# Altium schematic symbol library Schlib1.SchLib: 117 symbols (part 1 of 2)
Pins are listed as number, name and electrical type; pins without a type are passive.

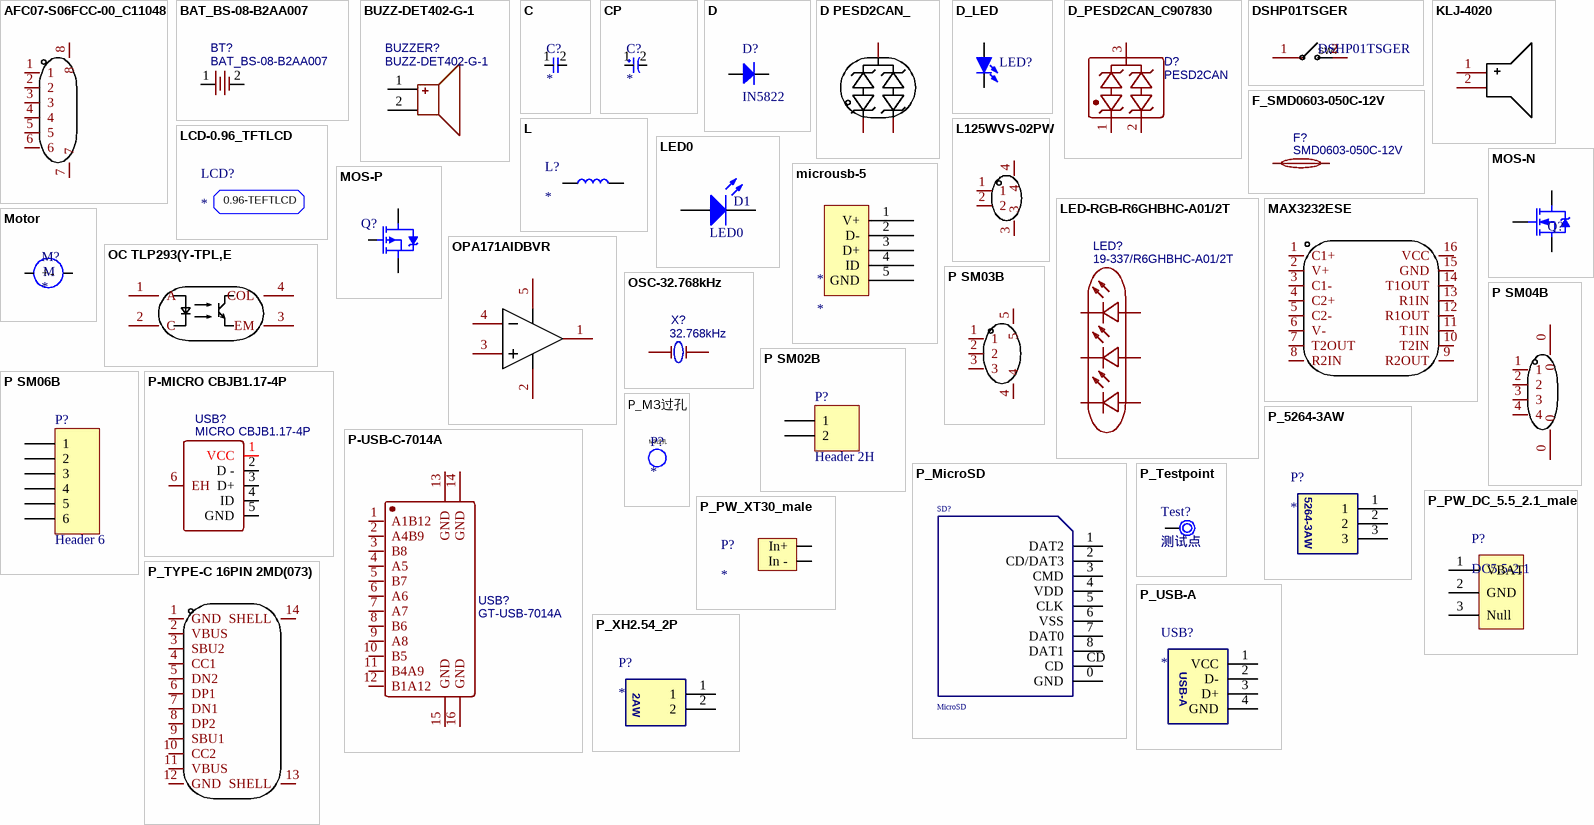
[diagram p0: symbols AFC07-S06FCC-00_C11048 to P_XH2.54_2P]

## AFC07-S06FCC-00_C11048
designator FPC?  (value not drawn)
Manufacturer: JS(钜硕电子); Symbol: FPC 0.5MM 6P Pull type H2.0mm Under the next; Add into BOM: yes; Pitch: 0.5mm; Number of Contacts: 6P; Locking Feature: 抽屉式; FFC, FCB Thickness: 0.3mm; Name: AFC07-S06FCC-00; Device: AFC07-S06FCC-00_C11048; LCSC Part Name: 0.5mm P数:6P 抽屉式 下接; Supplier Part: C11048; Manufacturer Part: AFC07-S06FCC-00; Supplier Footprint: SMD,P=0.5mm; JLCPCB Part Class: Extended Part; Datasheet: https://atta.szlcsc.com/upload/public/pdf/source/20190717/C405328_807FA67B3F1B55207D2BA590F8028B61.pdf; Supplier: LCSC; Convert to PCB: yes; Mounting Type: 卧贴; Contact Type: 下接; Height Above Board: 2mm
footprint FPC-SMD_P0.50-6P_LSSJ-H2.0-6P
3D model FPC-SMD_P0.50-6P_LSSJ-L8.6-W5.4-H2.0-6P
pins: 1, 2, 3, 4, 5, 6, 7, 8

## BAT_BS-08-B2AA007
designator BT?
BOM_Manufacturer: MYOUNG(美阳); Contributor: LCSC; BOM_Supplier: LCSC; BOM_Supplier Part: C964784; BOM_Manufacturer Part: BS-08-B2AA007; BOM_JLCPCB Part Class: Extended Part; spicePre: B; spiceSymbolName: BS-08-B2AA007
footprint BAT-SMD_BS-08-B2BA004
pins: 1, 2

## BUZZ-DET402-G-1
designator BUZZER?
BOM_Manufacturer: FUET(福声科技); BOM_Manufacturer Part: FUET-1580-12; Contributor: LCSC; BOM_Supplier: LCSC; BOM_Supplier Part: C2690508; BOM_JLCPCB Part Class: Extended Part; spicePre: B; spiceSymbolName: FUET-1580-12
footprint DET402-G-1
pins: 1, 2

## C
designator C?
pins: 1 "Supply Voltage", 2 "Supply Voltage"

## CP
designator C?
极性电容 / 多为大容量铝电解
pins: 1 "Supply Voltage", 2 "Supply Voltage"

## D
designator D?, comment IN5822
Default Diode; Published: 8-Jun-2000; LatestRevisionDate: 17-Jul-2002; LatestRevisionNote: Re-released for DXP Platform.; PackageVersion: Sep-1996; PackageReference: SMC; Publisher: Altium Limited; PackageDescription: DO-214-AB/SMC; 2 C-Bend Leads; Body 7.9 x 5.9 mm, inc. leads (LxW); Code_JEDEC: DO-214-AB
simulation model DIODE (Diode)
signal-integrity model Diode
footprint SMB (DO-214-AA/SMB; 2 C-Bend Leads; Body 5.3 x 3.6 mm, inc. leads (LxW))
pins: 1 A, 2 K

## D PESD2CAN_
designator D?, comment PESD2CAN_C907830  (value not drawn)
C907830; Manufacturer: TECH PUBLIC(台舟); Add into BOM: yes; Name: PESD2CAN; Symbol: PESD2CAN_C907830; Device: PESD2CAN_C907830; LCSC Part Name: PESD2CAN; Supplier Part: C907830; Manufacturer Part: PESD2CAN; Supplier Footprint: SOT23-3; JLCPCB Part Class: Extended Part; Datasheet: https://atta.szlcsc.com/upload/public/pdf/source/20201020/C907830_A4D1E6D0B6BD1253ACE8F8FC946B1D04.pdf; Supplier: LCSC; Convert to PCB: yes
footprint SOT-23-3_L2.9-W1.3-P1.90-LS2.4-BR
3D model SOT-23-3P_L2.9-W1.3-H1.0-LS2.4-P0.95
pins: 1, 2, 3

## D_LED
designator LED?
贴片LED; 版权归属: 黎明电子style; BOM名称: 贴片LED; 学习资源: https://lmdzstyle.taobao.com/
footprint LED 0603W (白色0603LED)
footprint LED 0603R (红色0603LED)
footprint LED 0603B (蓝色0603LED)
footprint LED 0603G (绿色0603LED)
footprint LED 0603Y (黄色0603LED)
footprint LED 0805G (绿色0805LED)
footprint PCBComponent_1
footprint LED 0805B (蓝色0805LED)
footprint LED 0805Y (黄色0805LED)
footprint LED 3528 (白色3528LED)
footprint LED 1206G (绿色1206LED)
footprint LED 5730-V (紫色5730LED)
footprint LED 1206Y (黄色1206LED)
footprint LED 0805W (白色0805LED)
footprint LED 1206B (蓝色1206LED)
footprint LED 1206W (白色1206LED)
footprint LED 1206R (红色1206LED)
pins: 1 A, 2 K

## D_PESD2CAN_C907830
designator D?, comment PESD2CAN
BOM_Manufacturer: TECH PUBLIC; Contributor: LCSC; BOM_Supplier: LCSC; BOM_Supplier Part: C907830; BOM_Manufacturer Part: PESD2CAN; BOM_JLCPCB Part Class: Extended Part; spicePre: D; spiceSymbolName: PESD2CAN_C907830
footprint SOT-23-3_L2.9-W1.3-P1.90-LS2.4-BR
pins: 1, 2, 3

## DSHP01TSGER
designator SW?
1.27mm开关; Manufacturer: 康深; Add into BOM: yes; Name: DSHP01TSGER; Symbol: DSHP01TSGER; Device: DSHP01TSGER; LCSC Part Name: 1位单PIN 1.27mm间距贴片型 KE拨码开关 编码开关; Supplier Part: C3293141; Manufacturer Part: DSHP01TSGER; Supplier Footprint: SMD,2.9x5.4mm; JLCPCB Part Class: Extended Part; Datasheet: https://atta.szlcsc.com/upload/public/pdf/source/20220713/BDDC0447A52B6A23E8804DA200FD4C7C.pdf; Supplier: LCSC; Convert to PCB: yes
footprint SW-SMD_DSHP01TSGER
3D model SW-SMD_DSHP01TSGER
pins: 1, 2

## F_SMD0603-050C-12V
designator F?, comment SMD0603-050C-12V
BOM_Manufacturer: BNstar(比诺星); Contributor: LCSC; BOM_Supplier: LCSC; BOM_Supplier Part: C2760256; BOM_Manufacturer Part: SMD0603-050C-12V; BOM_JLCPCB Part Class: Extended Part; spicePre: F; spiceSymbolName: SMD0603-050C-12V
footprint F0603
pins: 1, 2

## KLJ-4020
designator BUZZER?  (value not drawn)
Manufacturer: KELIKING(凯丽金); Name: 4kHz; Add into BOM: yes; Rated Voltage: 3V; Operating Voltage: 2V~4V; Current Consumption: 100mA; Value: 4kHz; Sound Pressure Level (SPL): 73dB@10cm; Symbol: KLJ-4020; Device: KLJ-4020; LCSC Part Name: 贴片蜂鸣器; Supplier Part: C556936; Manufacturer Part: KLJ-4020; Supplier Footprint: SMD,4x4mm; JLCPCB Part Class: Extended Part; Datasheet: https://atta.szlcsc.com/upload/public/pdf/source/20200519/C556936_56209A4E02A9DC2ACA23224C4D5F7090.pdf; Supplier: LCSC; Convert to PCB: yes; Oscillator Circuit: -; Technology Type: -; Diameter (φD): -; Length: 4mm; Width: 4mm; Height: 2mm; Operating Temperature: -30℃~+70℃
footprint BUZ-SMD_L4.0-W4.0-P3.50-L
3D model BUZ-SMD_2P-L4.0-W4.0-H2.0
pins: 1 +, 2 -

## L
designator L?
INDUCTOR
footprint AL0204 (9*2*4mm（脚距，直径，长度）)
footprint AL0204_V (3*2*4mm（脚距，直径，长度）)
footprint AL0307 (11*3*7mm（脚距，直径，长度）)
footprint AL0307_V (3.5*3*7mm（脚距，直径，长度）)
footprint AL0410 (15*4*10.5mm（脚距，直径，长度）)
footprint AL0410_V (5*4*10.5mm（脚距，直径，长度）)
footprint AL0510 (16*5*10.5mm（脚距，直径，长度）)
footprint AL0510_V (6*5*10.5mm（脚距，直径，长度）)
footprint CD31 (3.5*3*1mm（长宽高）)
footprint CD32 (3.5*3*2mm（长宽高）)
footprint CD42 (4.5*4*2mm（长宽高）)
footprint CD43 (4.5*4*3.2mm（长宽高）)
footprint CD52 (5.8*5.2*3mm（长宽高）)
footprint CD53 (5.8*5.2*3.5mm（长宽高）)
footprint CD54 (5.8*5.2*4.5mm（长宽高）)
footprint CD75 (7.8*7*5mm（长宽高）)
footprint CD104 (10*9*4mm（长宽高）)
footprint CD105 (10*9*5.4mm（长宽高）)
footprint CD106 (10*9*6.5mm（长宽高）)
footprint CDRH73 (7.3*7.3*3.4mm（长宽高）)
footprint CDRH74 (7.3*7.3*4.5mm（长宽高）)
footprint CDRH124 (12*12*4.5mm（长宽高）)
footprint CDRH125 (12*12*5mm（长宽高）)
footprint CDRH127 (12*12*8mm（长宽高）)
footprint CDRH129 (12*12*9.5mm（长宽高）)
footprint L 0630 (一体化成型电感)
footprint NR3015 (3mm*3mm*1.5mm(长*宽*高）)
footprint PK0406 (2*5*8mm(脚距，直径，高）)
footprint PK0608 (2.5*7*10mm(脚距，直径，高）)
footprint PK0810 (5*9*12mm(脚距，直径，高）)
footprint PK0912 (6*10*14mm(脚距，直径，高）)
footprint PK1012 (6*11*14mm(脚距，直径，高）)
footprint PK1415 (7.5*15*17mm(脚距，直径，高）)
footprint PK1618 (12.5*17*20mm(脚距，直径，高）)
footprint PK1818 (15*19*20mm(脚距，直径，高）)
footprint 0402L (小功率贴片电感)
footprint 0603L (小功率贴片电感)
footprint 0630L (一体化成型电感)
footprint 0805L (小功率贴片电感)
footprint 1210L (小功率贴片电感)
footprint Model Name (Model Description)
footprint 1806L (小功率贴片电感)
footprint 1812L (小功率贴片电感)
pins: 1, 2

## L125WVS-02PW
designator CN?  (value not drawn)
Manufacturer: DEALON(德艺隆); Add into BOM: yes; Pitch: 1.25mm; Pins Structure: 1x2P; Number of PINs Per Row: 2; Gender: 公型插针; Current Rating (Max): 1A; Name: L125WVS-02PW; Symbol: L125WVS-02PW; Device: L125WVS-02PW; LCSC Part Name: 1.25mm 1x2P 卧贴 GH1.25间距卧式贴片 2P 连接器; Supplier Part: C2998790; Manufacturer Part: L125WVS-02PW; Supplier Footprint: SMD,P=1.25mm; JLCPCB Part Class: Extended Part; Datasheet: https://atta.szlcsc.com/upload/public/pdf/source/20220425/50B09E6409C3A2782C6D65104D18E34A.pdf; Supplier: LCSC; Convert to PCB: yes; Number of Rows: 1; Mounting Style: 卧贴; Operating Temperature Range: -40℃~+110℃
footprint CONN-SMD_2P-P1.25_DELON_L125WVS-02PW
3D model CONN-SMD_2P-P1.25_DELON_L125WVS-02PW
pins: 1, 2, 3, 4

## LCD-0.96_TFTLCD
designator LCD?
footprint TFTLCD-0.96-80*160
text: 0.96-TEFTLCD

## LED0
designator D1
Typical INFRARED GaAs LED; Published: 8-Jun-2000; LatestRevisionDate: 08-Jul-2005; LatestRevisionNote: Mech Layer 1 removed.; PackageReference: LED-0; Publisher: Altium Limited; PackageDescription: LED; 2 Leads
simulation model LED0 (Diode)
footprint LED 0805 (红色0805LED)
pins: 1 A, 2 K

## LED-RGB-R6GHBHC-A01/2T
designator LED?, comment 19-337/R6GHBHC-A01/2T
C264519; BOM_Manufacturer: Everlight Elec; Contributor: LCSC; BOM_Supplier: LCSC; BOM_Supplier Part: C264519; BOM_Manufacturer Part: 19-337/R6GHBHC-A01/2T; BOM_JLCPCB Part Class: Extended Part; spicePre: L; spiceSymbolName: 19-337/R6GHBHC-A01/2T
footprint LED-ARRAY-SMD_6P-L1.6-W1.6-TL
pins: 1 -B, 2 -R, 3 -G, 4 +B, 5 +R, 6 +G

## MAX3232ESE
designator U6  (value not drawn)
RS232转换芯片; Manufacturer: UMW(广东友台半导体); Add into BOM: yes; Name: MAX3232ESE; Symbol: MAX3232ESE; Device: MAX3232ESE; LCSC Part Name: MAX3232ESE; Supplier Part: C2904738; Manufacturer Part: MAX3232ESE; Supplier Footprint: SOP-16; JLCPCB Part Class: Extended Part; Datasheet: https://atta.szlcsc.com/upload/public/pdf/source/20220325/F1EFC1CE5DFDF5432C655A6CD0D8EF2A.pdf; Supplier: LCSC; Convert to PCB: yes
footprint SOP-16_L9.9-W3.9-P1.27-LS6.0-BL
3D model SOP-16_L9.9-W3.9-P1.27-LS6.0-BL
pins: 1 C1+, 2 V+, 3 C1-, 4 C2+, 5 C2-, 6 V-, 7 T2OUT, 8 R2IN, 9 R2OUT, 10 T2IN, 11 T1IN, 12 R1OUT, 13 R1IN, 14 T1OUT, 15 GND, 16 VCC

## microusb-5
designator *
footprint microusb-5
pins: 1 V+, 2 D-, 3 D+, 4 ID, 5 GND

## MOS-N
designator Q?
N沟道场效应管
footprint SOT23
pins: D, G, S

## MOS-P
designator Q?
P沟道场效应管
pins: D, G, S

## Motor
designator M?
pins: 29 +, 30 -
text: M

## OC TLP293(Y-TPL,E
designator OC?, comment TLP293(Y-TPL,E  (value not drawn)
C194122; Manufacturer: TOSHIBA(东芝); Add into BOM: yes; Input voltage type: DC; Output Type: 光电三极管; Number of Outputs: 1; Forward Voltage: 1.25V; Output Current: 50mA; Receiving End Voltage: 80V; Collector-Emitter Saturation Voltage (Vce(sat)@Ic,IF): 300mV@2.4mA,8mA; Rise time: 2us@2mA,100Ω; Fall time: 3us@2mA,100Ω; Isolation Voltage(rms): 3.75kV; Name: TLP293(Y-TPL,E; Symbol: TLP293(Y-TPL,E; Device: TLP293(Y-TPL,E; LCSC Part Name: TLP293(Y-TPL,E; Supplier Part: C194122; Manufacturer Part: TLP293(Y-TPL,E; Supplier Footprint: SOP-4; JLCPCB Part Class: Extended Part; Datasheet: https://atta.szlcsc.com/upload/public/pdf/source/20180629/C194122_DED1EA08415CD9D71B3300DA4044A311.pdf; Supplier: LCSC; Convert to PCB: yes; Reverse Voltage: -; Operating Temperature: -55℃~+125℃
footprint SOP-4_L4.4-W2.8-P1.27-LS7.0-BR
3D model SOP-4_L2.7-W4.6-H2.1-LS7.0-P1.27
pins: 1 A, 2 C, 3 EM, 4 COL

## OPA171AIDBVR
designator U??  (value not drawn)
Manufacturer: TI(德州仪器); Add into BOM: yes; Amplifier Type: General Purpose; Number of Circuits: 1; Gain Bandwidth Product（GBP）: 3MHz; Slew Rate（SR）: 1.5 V/us; Output Type: Rail-to-Rail; Supply Voltage（Single）: 2.7V ~ 36V, ±1.35V ~ 18V; Iq per channel (Typ): 475uA; Name: OPA171AIDBVR; Symbol: OPA171AIDBVR; Device: OPA171AIDBVR; LCSC Part Name: OPA171AIDBVR; Supplier Part: C88036; Manufacturer Part: OPA171AIDBVR; Supplier Footprint: SOT-23-5; JLCPCB Part Class: Extended Part; Datasheet: https://atta.szlcsc.com/upload/public/pdf/source/20170919/C88036_1505787414165977297.pdf; Supplier: LCSC; Convert to PCB: yes; Operating Temperature: -40°C ~ 125°C
footprint SOT-23-5_L3.0-W1.7-P0.95-LS2.8-BR
3D model SOT-23-5_L2.9-W1.6-H1.1-LS2.8-P0.95
pins: 1 OUT, 2 V-, 3 IN+, 4 IN-, 5 V+

## OSC-32.768kHz
designator X?, comment 32.768kHz
负载为12.5pF; BOM_Manufacturer Part: X206032768KGA2SC; BOM_Manufacturer: YXC; nameAlias: Frequency; BOM_Supplier: LCSC; BOM_Supplier Part: C13712; BOM_JLCPCB Part Class: Extended Part; spicePre: X; spiceSymbolName: X206032768KGA2SC
footprint OSC-TH_BD2.0-P0.70-D0.3
pins: 1 OSC1, 2 OSC2

## P SM02B
designator P?, comment Header 2H
Header, 2-Pin, Right Angle; LatestRevisionDate: 17-Jul-2002; LatestRevisionNote: Re-released for DXP Platform.; Publisher: Altium Limited
signal-integrity model Connector
footprint P-PH2.0-WI-2P (长：5.9mm，宽：6mm，高：4.7mm)
pins: 1, 2

## P SM03B
designator X?, comment GH125-S03DCA-00  (value not drawn)
Manufacturer: JS(钜硕电子); Add into BOM: yes; Pitch: 1.25mm; Pins Structure: 1x3P; Number of PINs Per Row: 3; Gender: 公型插针; Current Rating (Max): 1A; Name: GH125-S03DCA-00; Symbol: GH125-S03DCA-00; Device: GH125-S03DCA-00; LCSC Part Name: GH1.25卧式贴片 带扣; Supplier Part: C2886766; Manufacturer Part: GH125-S03DCA-00; Supplier Footprint: SMD,P=1.25mm; JLCPCB Part Class: Extended Part; Datasheet: https://atta.szlcsc.com/upload/public/pdf/source/20210818/CD11791E5ED3EDF45A7009E9C8A2BD4C.pdf; Supplier: LCSC; Convert to PCB: yes; Reference Series: -; Number of Rows: 1; Row Spacing: -; Mounting Style: 卧贴; Operating Temperature Range: -25℃~+85℃
footprint CONN-SMD_3P-P1.25_JUSHUO_GH125-S03DCA-00
3D model CONN-SMD_3P-P1.25_JUSHUO_GH125-S03DCA-00
pins: 1, 2, 3, 4, 5

## P SM04B
designator P?, comment GH1.25-4PWBPZ  (value not drawn)
Manufacturer: BOOMELE(博穆精密); Add into BOM: yes; Name: GH1.25-4PWBPZ; Symbol: GH1.25-4PWBPZ; Device: GH1.25-4PWBPZ; LCSC Part Name: GH1.25-4P卧贴编带; Supplier Part: C2829253; Manufacturer Part: GH1.25-4PWBPZ; Supplier Footprint: -; JLCPCB Part Class: Extended Part; Datasheet: https://atta.szlcsc.com/upload/public/pdf/source/20211125/08A09A4909F58AF780B71FE423A00F7E.pdf; Supplier: LCSC; Convert to PCB: yes
footprint CONN-SMD_GH1.25-4PWBPZ
3D model CONN-SMD_GH1.25-4PWBPZ
pins: 0, 0, 1, 2, 3, 4

## P SM06B
designator P?, comment Header 6
Header, 6-Pin; LatestRevisionDate: 17-Jul-2002; LatestRevisionNote: Re-released for DXP Platform.; Publisher: Altium Limited
footprint BM06B-GHS-TBT (A1257WR-S-6P)
pins: 1, 2, 3, 4, 5, 6

## P-MICRO CBJB1.17-4P
designator USB?, comment MICRO CBJB1.17-4P
BOM_Manufacturer: SHOU HAN; Contributor: LCSC; BOM_Supplier: LCSC; BOM_Supplier Part: C456009; BOM_Manufacturer Part: MICRO CBJB1.17-4P; BOM_JLCPCB Part Class: Extended Part; spicePre: U; spiceSymbolName: MICRO CBJB1.17-4P
footprint P-MINI-USB-SMD_CBJB1.17-4P
pins: 1 VCC, 2 D -, 3 D+, 4 ID, 5 GND, 6 EH

## P-USB-C-7014A
designator USB?, comment GT-USB-7014A
BOM_Manufacturer: G-Switch(品赞); Contributor: LCSC; BOM_Supplier: LCSC; BOM_Supplier Part: C963371; BOM_Manufacturer Part: GT-USB-7014A; BOM_JLCPCB Part Class: Extended Part; spicePre: U; spiceSymbolName: GT-USB-7014A
pins: 1 A1B12, 2 A4B9, 3 B8, 4 A5, 5 B7, 6 A6, 7 A7, 8 B6, 9 A8, 10 B5, 11 B4A9, 12 B1A12, 13 GND, 14 GND, 15 GND, 16 GND

## P_5264-3AW
designator P?
footprint P CONN-TH_5264-3AW
pins: 1, 2, 3
text: 5264-3AW

## P_M3过孔
designator P?
footprint P_M3过孔
text: M3过孔

## P_MicroSD
designator SD?, comment MicroSD
footprint P_TF Card
pins: 0 GND, 1 DAT2 "片选/负有效", 2 CD/DAT3 "数据输入", 3 CMD "地", 4 VDD, 5 CLK, 6 VSS, 7 DAT0, 8 DAT1, CD

## P_PW_DC_5.5_2.1_male
designator P?, comment DC5.5-2.1
footprint P_DC-050-5.5*2.1_贴片 (5.5*2.1)
pins: 1 VBAT, 2 GND, 3 Null

## P_PW_XT30_male
designator P?
XT30_pw_m / XT30母头电源输入
footprint XT30
pins: 1 In+, 2 In -

## P_Testpoint
designator Test?, comment 测试点
pins: 1

## P_TYPE-C 16PIN 2MD(073)
designator USB?, comment TYPE-C 16PIN 2MD(073)  (value not drawn)
C2765186 Type-C 母座 卧贴 带定位柱 不锈钢外壳 2次模顶; Manufacturer: SHOU HAN(首韩); Add into BOM: yes; Number of Contacts: 16; Number of Ports: 1; Current Rating - Power (Max): 5A; Name: TYPE-C 16PIN 2MD(073); Symbol: TYPE-C 16PIN 2MD(073); Device: TYPE-C 16PIN 2MD(073); LCSC Part Name: TYPE-C母座 16P 4脚插件带定位柱 不锈钢外壳 2次模顶; Supplier Part: C2765186; Manufacturer Part: TYPE-C 16PIN 2MD(073); Supplier Footprint: SMD; JLCPCB Part Class: Extended Part; Supplier: LCSC; Convert to PCB: yes; Connector Type: Type-C; Standard: -; Gender: 母座; Mounting Style: 卧贴; Operating Temperature Range: -25℃~+85℃
footprint USB-C-SMD_TYPE-C-6PIN-2MD-073 (Footprint not found)
3D model USB-C-SMD_TYPE-C-6PIN-2MD-073
pins: 1 GND, 2 VBUS, 3 SBU2, 4 CC1, 5 DN2, 6 DP1, 7 DN1, 8 DP2, 9 SBU1, 10 CC2, 11 VBUS, 12 GND, 13 SHELL, 14 SHELL

## P_USB-A
designator USB?
footprint P-USB-A-SMD_905-761A2022S10203 (C2763021)
pins: 1 VCC, 2 D-, 3 D+, 4 GND

## P_XH2.54_2P
designator P?
footprint P-XH2/2.54mm/90
pins: 1, 2
text: 2AW

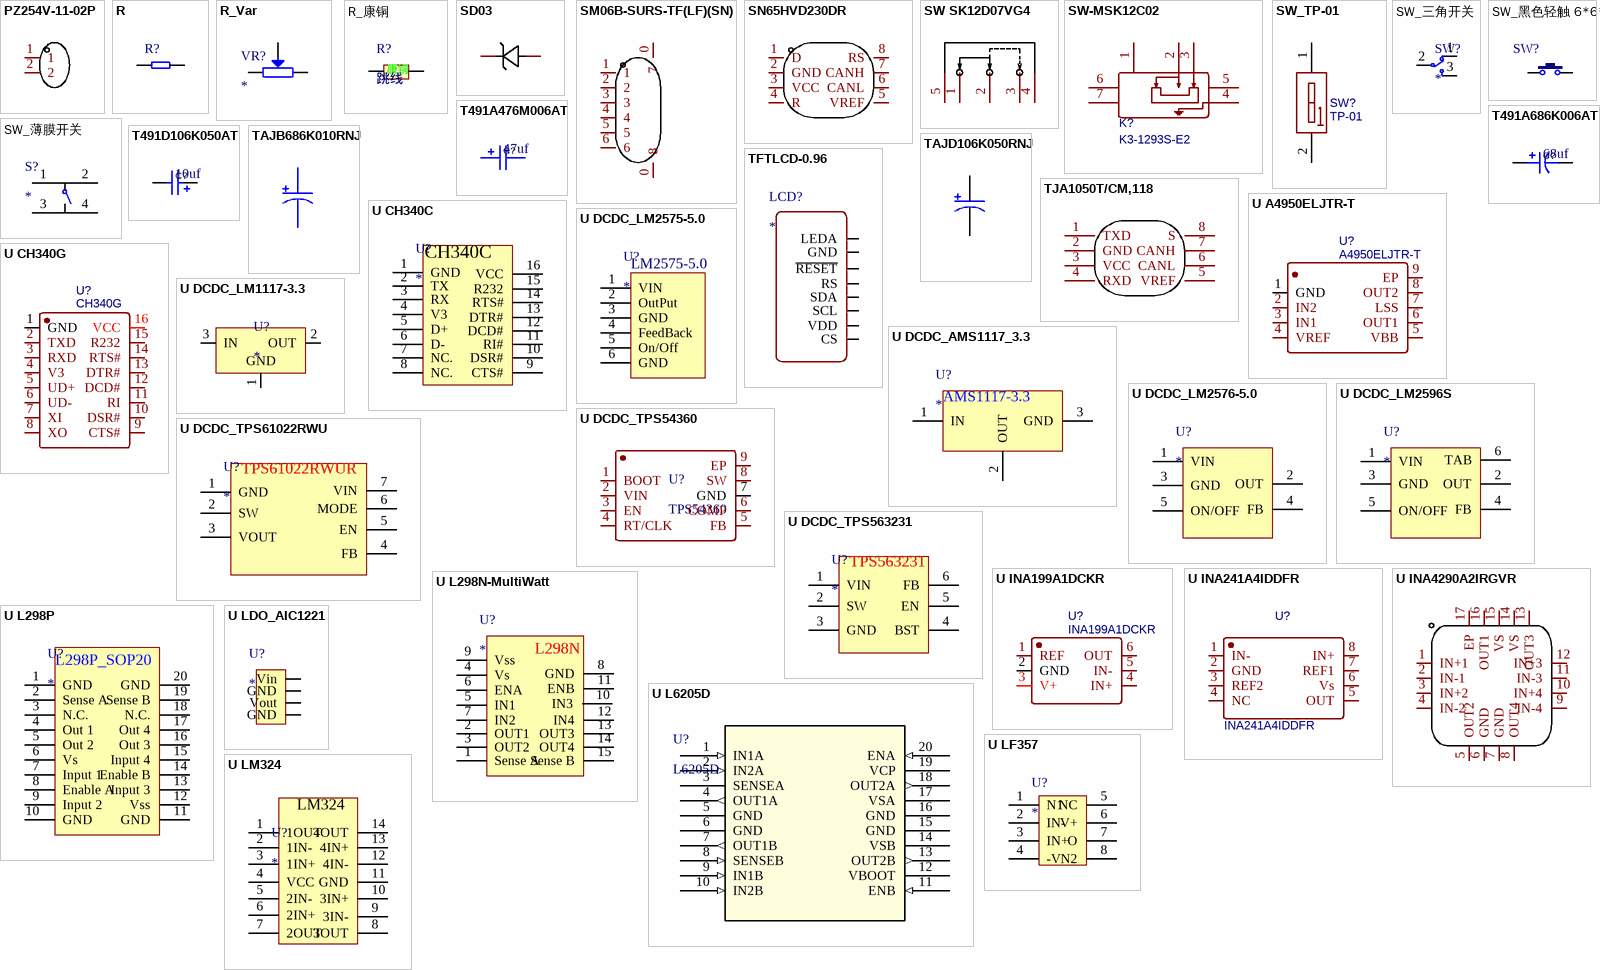
[diagram p1: symbols PZ254V-11-02P to U LM324]

## PZ254V-11-02P
designator H?  (value not drawn)
Manufacturer: XFCN(兴飞); Add into BOM: yes; Pitch: 2.54mm; Pin Structure: 1x2P; Circluar Pins/Square Pins: 方针; Name: PZ254V-11-02P; Symbol: PZ254V-11-02P; Device: PZ254V-11-02P; LCSC Part Name: 2.54mm 1x2P 直插 方针; Supplier Part: C492401; Manufacturer Part: PZ254V-11-02P; Supplier Footprint: 插件,P=2.54mm; JLCPCB Part Class: Extended Part; Datasheet: https://atta.szlcsc.com/upload/public/pdf/source/20200309/C492401_A812433581A9B211A7FFA413ADDFF0E5.pdf; Supplier: LCSC; Convert to PCB: yes; Number of Rows: 单排; Number of Pins: 2P; Row Spacing: -; Mounting Type: 直插; Current Rating (Max): -; Voltage Rating (Max): -; Length of Mating Pin: 6mm; Insulation Height: 2.5mm; Length of End Connection Pin: 3mm; Contact Material: 黄铜; Contact Plating: -; Operating Temperature Range: -40℃~+105℃; Color: 黑色
footprint HDR-TH_2P-P2.54-V-M
3D model HDR2.54-M-LI-1X2P
pins: 1, 2

## R
designator R?
贴片电阻; 版权归属: 黎明电子style; BOM名称: 贴片电阻; 学习资源: https://lmdzstyle.taobao.com/
footprint R 0805_M (1/8W贴片电阻)
pins: 1, 2

## R_Var
designator VR?
footprint 3296W
footprint 3362P
footprint 3362S
footprint 微调卧式蓝白电位器
pins: 1, 2, 3

## R_康铜
designator R?, comment 跳线
pins: 0, 1
text: 康铜

## SD03
designator D?  (value not drawn)
TVS3.3截止; Manufacturer: MDD; Symbol: SD03_C502526; Add into BOM: yes; Reverse Stand-Off Voltage (Vrwm): 3.3V; Breakdown Voltage: 4V; Peak Pulse Current (Ipp)@10/1000us: 20A; Maximum Clamping Voltage: 14V; Name: SD03; Device: SD03; LCSC Part Name: 单向TVS 3.3V截止 20A峰值脉冲; Supplier Part: C502526; Manufacturer Part: SD03; Supplier Footprint: SOD-323; JLCPCB Part Class: Extended Part; Datasheet: https://atta.szlcsc.com/upload/public/pdf/source/20200324/C502526_6D92D06B51C211BBF0D6BD94672586B0.pdf; Supplier: LCSC; Convert to PCB: yes
footprint SOD-323_L1.8-W1.3-LS2.5-RD
3D model SOD-323_L1.7-W1.3-H1.1-LS2.5
pins: 1 C, 2 A

## SM06B-SURS-TF(LF)(SN)
designator P?  (value not drawn)
Manufacturer: JST; Add into BOM: yes; Pitch: 0.8mm; Pins Structure: 1x6P; Number of PINs Per Row: 6; Gender: 公型插针; Current Rating (Max): 200mA; Name: SM06B-SURS-TF(LF)(SN); Symbol: SM06B-SURS-TF(LF)(SN); Device: SM06B-SURS-TF(LF)(SN); LCSC Part Name: 间距:0.8mm 1x6P 卧贴; Supplier Part: C495545; Manufacturer Part: SM06B-SURS-TF(LF)(SN); Supplier Footprint: SMD,P=0.8mm; JLCPCB Part Class: Extended Part; Datasheet: https://atta.szlcsc.com/upload/public/pdf/source/20200311/C495545_E72935403D1EB49F793AD89C21E66448.pdf; Supplier: LCSC; Convert to PCB: yes; Reference Series: -; Number of Rows: 1; Row Spacing: -; Mounting Style: 卧贴; Contact Material: 铜合金; Contact Plating: 锡; Operating Temperature Range: -25℃~+85℃
footprint CONN-SMD_SM06B-SURS-TF-LF-SN
3D model CONN-SMD_SM06B-SURS-TF(LF)(SN)
pins: 0 8, 0 7, 1, 2, 3, 4, 5, 6

## SN65HVD230DR
designator U?  (value not drawn)
can芯片vp230; Manufacturer: TI(德州仪器); Add into BOM: yes; Data Rate: 1Mbps; Supply Voltage: 3V~3.6V; Name: SN65HVD230DR; Symbol: SN65HVD230DR; Device: SN65HVD230DR; LCSC Part Name: 1Mbps 3V~3.6V; Supplier Part: C12084; Manufacturer Part: SN65HVD230DR; Supplier Footprint: SOIC-8; JLCPCB Part Class: Basic Part; Datasheet: https://atta.szlcsc.com/upload/public/pdf/source/20140508/1457707055452.pdf; Supplier: LCSC; Convert to PCB: yes; Type: 收发器
footprint SOIC-8_L4.9-W3.9-P1.27-LS6.0-BL
3D model SOIC-8_L4.9-W3.9-H1.7-LS6.0-P1.27
pins: 1 D, 2 GND, 3 VCC, 4 R, 5 VREF, 6 CANL, 7 CANH, 8 RS

## SW SK12D07VG4
designator SW?, comment SK12D07VG4  (value not drawn)
Manufacturer: SHOU HAN(首韩); Add into BOM: yes; Operating Force: 130~330gf; Rated Voltage(DC): 50V; Contact Rating @ Voltage: 500mA @ 50VDC; Circuit: SPDT; Electrical Life Cycles: 5000; Switch Function: On-On; Switch Height: 4mm; Actuator Orientation: Horizontal; Contact Timing: Shorting (MBB); Actuator Type: Standard; Name: SK12D07VG4; Symbol: SK12D07VG4; Device: SK12D07VG4; LCSC Part Name: 3脚2二档位SK12D07VG4滑动开关1P2T卧式拨动开关; Supplier Part: C393937; Manufacturer Part: SK12D07VG4; Supplier Footprint: 插件,P=2mm; JLCPCB Part Class: Extended Part; Supplier: LCSC; Convert to PCB: yes; Contact Material: Brass; Contact Finish: -; Operating Temperature: -; Rated Voltage(AC): -; Mounting Type: Through Hole, Right Angle; Termination Style: PC 引脚
footprint SW-TH_SK12D07VG4
3D model SW-TH_L8.7-W4.4-H4.0-P2.0
pins: 1, 2, 3, 4, 5

## SW-MSK12C02
designator K?, comment K3-1293S-E2
BOM_Manufacturer: SHOU HAN; BOM_Manufacturer Part: MSK12C02; Contributor: LCSC; BOM_Supplier: LCSC; BOM_Supplier Part: C431540; BOM_JLCPCB Part Class: Extended Part; spicePre: S; spiceSymbolName: MSK12C02
footprint SW-TH_MSK12C02
pins: 1, 2, 3, 4, 5 4, 6 4, 7 4

## SW_TP-01
designator SW?, comment TP-01
BOM_Manufacturer: Yuandi; Contributor: LCSC; BOM_Supplier: LCSC; BOM_Supplier Part: C559164; BOM_Manufacturer Part: TP-01; BOM_JLCPCB Part Class: Extended Part; spicePre: S; spiceSymbolName: TP-01
footprint SW-SMD_2P-L2.8-W5.4-P1.27-LS8.5
pins: 1 A1, 2 A2

## SW_三角开关
designator SW?
pins: 1, 2, 3

## SW_薄膜开关
designator S?
pins: 1 "24V输入", 2 "24V输入", 3 "24V输入", 4 "24V输入"

## SW_黑色轻触 6*6*5
designator SW?, comment ZigReset  (value not drawn)
3x6轻触开关; 版权归属: 黎明电子style; BOM名称: 3x6轻触开关; 学习资源: https://lmdzstyle.taobao.com/
pins: 1, 2

## T491A476M006AT
designator C?, comment 47uf
47uF ±20% 6.3V / 钽电容; Manufacturer: KEMET(基美); Symbol: T491A476M006AT; Add into BOM: yes; Equivalent Series Resistance(ESR): 3.5Ω@100kHz; Name: 47uF; Device: T491A476M006AT; LCSC Part Name: 47uF ±20% 6.3V; Supplier Part: C116270; Manufacturer Part: T491A476M006AT; Supplier Footprint: CASE-A_3216; JLCPCB Part Class: Extended Part; Datasheet: https://atta.szlcsc.com/upload/public/pdf/source/20170712/C116270_1499827712763813370.pdf; Supplier: LCSC; Convert to PCB: yes; Value: 47uF; Tolerance: ±20%; Rated Voltage: 6.3V; Operating Temperature: -55℃~+125℃
footprint CAP-SMD_L3.2-W1.6
3D model CAP-SMD_L3.2-W1.6
pins: 1, 2

## T491A686K006AT
designator C?, comment 68uf
48uf坦电容; Manufacturer: KEMET(基美); Symbol: T491A686K006AT; Add into BOM: yes; Tolerance: ±10%; Rated Voltage: 6.3V; Equivalent Series Resistance(ESR): 4Ω; Name: 68uF; Device: T491A686K006AT; LCSC Part Name: 68uF ±10% 6.3V; Supplier Part: C1952895; Manufacturer Part: T491A686K006AT; Supplier Footprint: 1206; JLCPCB Part Class: Extended Part; Datasheet: https://atta.szlcsc.com/upload/public/pdf/source/20210416/95C0EC5B3581C9A90529545117ABEAC1.pdf; Supplier: LCSC; Convert to PCB: yes; Value: 68uF; Leakage Current(DCL): -; Ripple Current: -; Operating Temperature: -55℃~+125℃
footprint CAP-SMD_L3.2-W1.6-FD (48uf坦电容)
3D model CAP-SMD_L3.2-W1.6-FD
pins: 1, 2

## T491D106K050AT
designator C?, comment 10uf
10uF ±10% 50V  坦电容PESD2CAN; Manufacturer: KEMET(基美); Symbol: T491D106K050AT; Add into BOM: yes; Equivalent Series Resistance(ESR): 800mΩ@100kHz; Name: 10uF; Device: T491D106K050AT; LCSC Part Name: 10uF ±10% 50V; Supplier Part: C117038; Manufacturer Part: T491D106K050AT; Supplier Footprint: CASE-D_7343; JLCPCB Part Class: Extended Part; Datasheet: https://atta.szlcsc.com/upload/public/pdf/source/20170712/C117038_1499827750045813408.pdf; Supplier: LCSC; Convert to PCB: yes; Value: 10uF; Tolerance: ±10%; Rated Voltage: 50V; Operating Temperature: -55℃~+125℃
footprint CAP-SMD_L7.3-W4.3-R-RD
3D model CASE-E_L7.3-W4.3-H4.1
pins: 1, 2

## TAJB686K010RNJ
designator C?  (value not drawn)
Manufacturer: Kyocera AVX; Name: 68uF; Add into BOM: yes; Value: 68uF; Tolerance: ±10%; Rated Voltage: 10V; Equivalent Series Resistance(ESR): 1.4Ω@100kHz; Symbol: TAJB686K010RNJ; Device: TAJB686K010RNJ; LCSC Part Name: 68uF ±10% 10V; Supplier Part: C111253; Manufacturer Part: TAJB686K010RNJ; Supplier Footprint: CASE-B-3528; JLCPCB Part Class: Extended Part; Datasheet: https://atta.szlcsc.com/upload/public/pdf/source/20181012/C111253_27A8DF51626E9E410784C1AEA8F932D2.pdf; Supplier: LCSC; Convert to PCB: yes; Operating Temperature: -55℃~+125℃
footprint CAP-SMD_L3.5-W2.8-R-RD
3D model CASE-B_L3.5-W2.8-H1.9
pins: 1, 2

## TAJD106K050RNJ
designator C?, comment 10uf  (value not drawn)
10uf坦电容; Manufacturer: Kyocera AVX; Symbol: TAJD106K050RNJ; Add into BOM: yes; Tolerance: ±10%; Rated Voltage: 50V; Equivalent Series Resistance(ESR): 800mΩ@100kHz; Name: 10uF; Device: TAJD106K050RNJ; LCSC Part Name: 10uF ±10% 50V; Supplier Part: C89596; Manufacturer Part: TAJD106K050RNJ; Supplier Footprint: CASE-D-7343; JLCPCB Part Class: Extended Part; Datasheet: https://atta.szlcsc.com/upload/public/pdf/source/20161207/1481104178218.pdf; Supplier: LCSC; Convert to PCB: yes; Value: 10uF; Operating Temperature: -55℃~+125℃
footprint CASE-D_7343
3D model CASE-D_L7.3-W4.3-H2.9
pins: 1, 2

## TFTLCD-0.96
designator LCD?
pins: 1 LEDA, 2 GND, 3 ~{RESET}, 4 RS, 5 SDA, 6 SCL, 7 VDD, 8 CS

## TJA1050T/CM,118
designator U?  (value not drawn)
can芯片; Manufacturer: NXP(恩智浦); Add into BOM: yes; Supply Voltage: 4.75V~5.25V; Supply Current: 50mA; Name: TJA1050T/CM,118; Symbol: TJA1050T/CM,118; Device: TJA1050T/CM,118; LCSC Part Name: 4.75V~5.25V; Supplier Part: C6952; Manufacturer Part: TJA1050T/CM,118; Supplier Footprint: SOIC-8; JLCPCB Part Class: Basic Part; Datasheet: https://atta.szlcsc.com/upload/public/pdf/source/20140411/1457707042917.pdf; Supplier: LCSC; Convert to PCB: yes; Type: 收发器
footprint SOIC-8_L5.0-W4.0-P1.27-LS6.0-BL
3D model SOIC-8_L4.9-W3.9-H1.7-LS6.0-P1.27
pins: 1 TXD, 2 GND, 3 VCC, 4 RXD, 5 VREF, 6 CANL, 7 CANH, 8 S

## U A4950ELJTR-T
designator U?, comment A4950ELJTR-T
A4950电机驱动芯片; BOM_Manufacturer: ALLEGRO; BOM_Supplier: LCSC; BOM_Manufacturer Part: A4950ELJTR-T; BOM_Supplier Part: C82404; BOM_JLCPCB Part Class: Extended Part; spicePre: U; spiceSymbolName: A4950ELJTR-T
footprint SOIC-8_L4.9-W3.9-P1.27-LS6.0-BL-EP
pins: 1 GND, 2 IN2, 3 IN1, 4 VREF, 5 VBB, 6 OUT1, 7 LSS, 8 OUT2, 9 EP

## U CH340C
designator U?
pins: 1 GND "24V输入", 2 TX "24V输入", 3 RX "24V输入", 4 V3 "24V输入", 5 D+ "24V输入", 6 D- "24V输入", 7 NC. "24V输入", 8 NC. "24V输入", 9 CTS# "24V输入", 10 DSR# "24V输入", 11 RI# "24V输入", 12 DCD# "24V输入", 13 DTR# "24V输入", 14 RTS# "24V输入", 15 R232 "24V输入", 16 VCC "24V输入"
text: CH340C

## U CH340G
designator U?, comment CH340G
BOM_Manufacturer: WCH; timeStamp: 1468327462; BOM_Supplier: LCSC; BOM_Manufacturer Part: CH340G; BOM_Supplier Part: C14267; BOM_JLCPCB Part Class: Extended Part; spicePre: U; spiceSymbolName: CH340G
footprint SOIC-16_L9.9-W3.9-P1.27-LS6.0-BL
pins: 1 GND, 2 TXD, 3 RXD, 4 V3, 5 UD+, 6 UD-, 7 XI, 8 XO, 9 CTS#, 10 DSR#, 11 RI, 12 DCD#, 13 DTR#, 14 RTS#, 15 R232, 16 VCC

## U DCDC_AMS1117_3.3
designator U?
pins: 1 IN, 2 OUT, 3 GND
text: AMS1117-3.3

## U DCDC_LM1117-3.3
designator U?
footprint LM1117
pins: 1 GND (power), 2 OUT (power), 3 IN (power)

## U DCDC_LM2575-5.0
designator U?
降压芯片
pins: 1 VIN, 2 OutPut, 3 GND, 4 FeedBack, 5 On/Off, 6 GND
text: LM2575-5.0

## U DCDC_LM2576-5.0
designator U?
pins: 1 VIN, 2 OUT, 3 GND, 4 FB, 5 ON/OFF

## U DCDC_LM2596S
designator U?
pins: 1 VIN, 2 OUT, 3 GND, 4 FB, 5 ON/OFF, 6 TAB

## U DCDC_TPS54360
designator U?, comment TPS54360
降转5
footprint SOP_8
pins: 1 BOOT, 2 VIN, 3 EN, 4 RT/CLK, 5 FB, 6 COMP, 7 GND, 8 SW, 9 EP

## U DCDC_TPS61022RWU
designator U?
pins: 1 GND "24V输入", 2 SW "24V输入", 3 VOUT "24V输入", 4 FB "24V输入", 5 EN "24V输入", 6 MODE "24V输入", 7 VIN "24V输入"
text: TPS61022RWUR

## U DCDC_TPS563231
designator U?
pins: 1 VIN "24V输入", 2 SW "24V输入", 3 GND "24V输入", 4 BST "24V输入", 5 EN "24V输入", 6 FB "24V输入"
text: TPS563231

## U INA199A1DCKR
designator U?, comment INA199A1DCKR
BOM_Manufacturer: TI; spicePre: X; BOM_Supplier: LCSC; BOM_Manufacturer Part: INA199A1DCKR; BOM_Supplier Part: C59135; BOM_JLCPCB Part Class: Extended Part; spiceSymbolName: INA199A1DCKR
footprint SC-70-6_L2.2-W1.3-P0.65-LS2.1-BR
pins: 1 REF, 2 GND, 3 V+, 4 IN+, 5 IN-, 6 OUT

## U INA241A4IDDFR
designator U?, comment INA241A4IDDFR
100倍增益; BOM_Manufacturer: TI; BOM_Manufacturer Part: INA240A1PWR; Contributor: LCSC; SMT Type: Extend; BOM_Supplier: LCSC; BOM_Supplier Part: C93965; BOM_LCSC Assembly: Yes; spicePre: U; spiceSymbolName: INA240A1PWR
footprint TSSOP-8_L4.4-W3.0-P0.65-LS6.4-BL
footprint TSSOP-8_L4.4-W3.0-P0.65-LS6.4-BL
footprint SOT-23-8_L2.9-W1.6-P0.65-LS2.8-BL
pins: 1 IN-, 2 GND, 3 REF2, 4 NC, 5 OUT, 6 Vs, 7 REF1, 8 IN+

## U INA4290A2IRGVR
designator U?, comment INA4290A2IRGVR  (value not drawn)
Manufacturer: TI(德州仪器); Name: INA3221AIRGVR; Add into BOM: yes; Symbol: INA3221AIRGVR; Device: INA3221AIRGVR; LCSC Part Name: INA3221AIRGVR; Supplier Part: C181255; Manufacturer Part: INA3221AIRGVR; Supplier Footprint: QFN-16-EP(4x4); JLCPCB Part Class: Extended Part; Datasheet: https://atta.szlcsc.com/upload/public/pdf/source/20180227/C181255_15196973572891369901.pdf; Supplier: LCSC; Convert to PCB: yes
footprint QFN-16_L4.0-W4.0-P0.65-TL-EP2.2
3D model QFN-16_L4.0-W4.0-H1.0-P0.65
pins: 1 IN+1, 2 IN-1, 3 IN+2, 4 IN-2, 5 OUT2, 6 GND, 7 GND, 8 OUT4, 9 IN-4, 10 IN+4, 11 IN-3, 12 IN+3, 13 OUT3, 14 VS, 15 VS, 16 OUT1, 17 EP

## U L298N-MultiWatt
designator U?
footprint L298N-MultiWatt
pins: 1 Sense A, 2 OUT1, 3 OUT2, 4 Vs "Supply Voltage", 5 IN1 "Supply Voltage", 6 ENA "Supply Voltage", 7 IN2 "Supply Voltage", 8 GND "Supply Voltage", 9 Vss "Supply Voltage", 10 IN3 "Supply Voltage", 11 ENB "Supply Voltage", 12 IN4 "Supply Voltage", 13 OUT3 "Supply Voltage", 14 OUT4 "Supply Voltage", 15 Sense B "Supply Voltage"
text: L298N

## U L298P
designator U?
pins: 1 GND, 2 Sense A, 3 N.C., 4 Out 1, 5 Out 2, 6 Vs, 7 Input 1, 8 Enable A, 9 Input 2, 10 GND, 11 GND, 12 Vss, 13 Input 3, 14 Enable B, 15 Input 4, 16 Out 3, 17 Out 4, 18 N.C., 19 Sense B, 20 GND
text: L298P_SOP20

## U L6205D
designator U?, comment L6205D
No Description Available; SourceLibrary: Updates_to_database_2020-11-02; Built_By: EMA_UL_Team; Vendor: STMicroelectronics; Manufacturer_Part_Number: L6205D; Copyright: Copyright (C) 2021 Accelerated Designs. All rights reserved; RefDes: RefDes; Type: DEV
footprint SO-20_STM
pins: 1 IN1A (in), 2 IN2A (in), 3 SENSEA (power), 4 OUT1A (out), 5 GND, 6 GND, 7 OUT1B (out), 8 SENSEB (in), 9 IN1B (in), 10 IN2B (in), 11 ENB (in), 12 VBOOT (power), 13 OUT2B (out), 14 VSB (power), 15 GND, 16 GND, 17 VSA (power), 18 OUT2A (out), 19 VCP (power), 20 ENA (in)

## U LDO_AIC1221
designator U?
pins: 1 Vin, 2 GND, 3 Vout, 4 GND

## U LF357
designator U?
pins: 1 N1 "24V输入", 2 IN- "24V输入", 3 IN+ "24V输入", 4 -V "24V输入", 5 NC "24V输入", 6 V+ "24V输入", 7 O "24V输入", 8 N2 "24V输入"

## U LM324
designator U?
pins: 1 1OUT "24V输入", 2 1IN- "24V输入", 3 1IN+ "24V输入", 4 VCC "24V输入", 5 2IN- "24V输入", 6 2IN+ "24V输入", 7 2OUT "24V输入", 8 3OUT "24V输入", 9 3IN- "24V输入", 10 3IN+ "24V输入", 11 GND "24V输入", 12 4IN- "24V输入", 13 4IN+ "24V输入", 14 4OUT "24V输入"
text: LM324

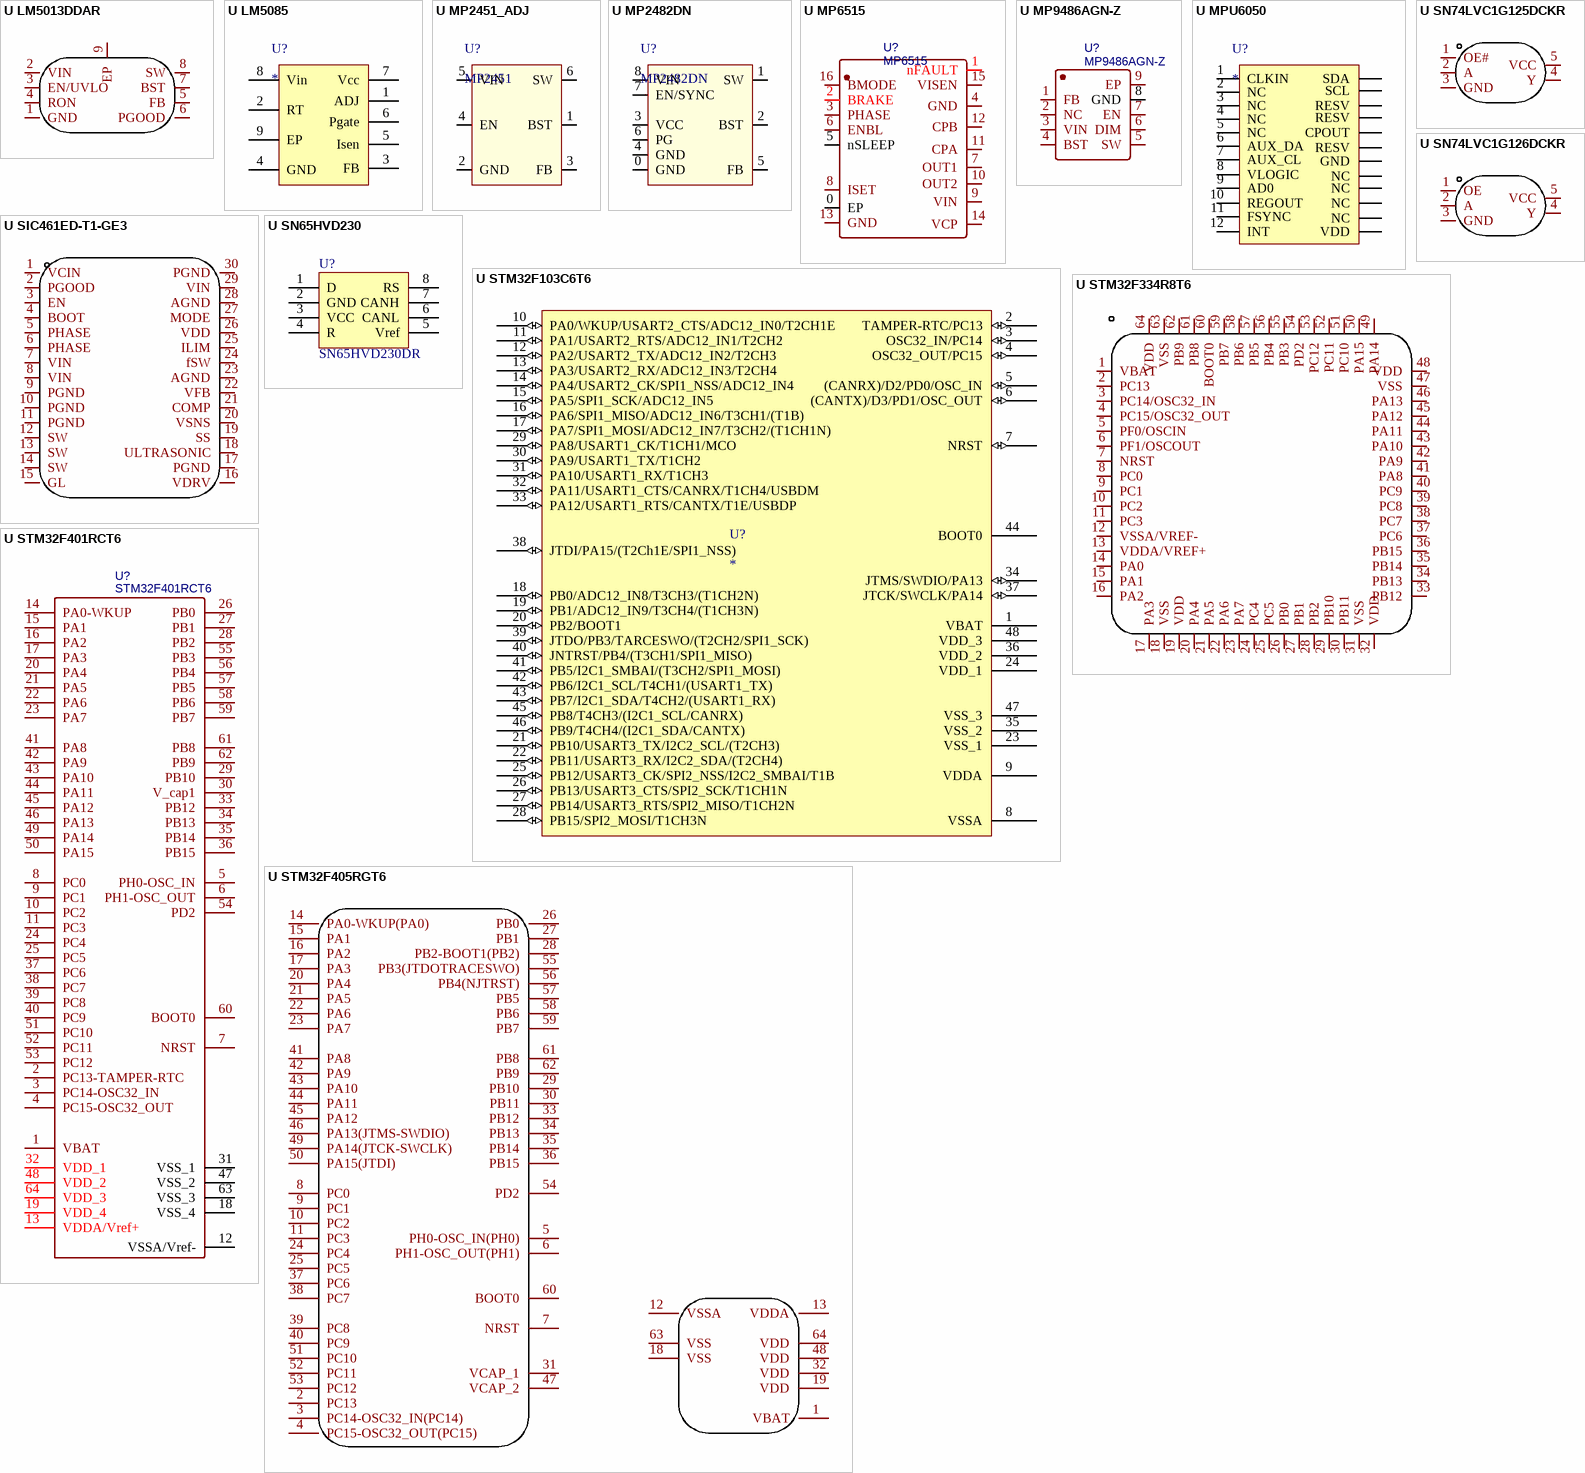
[diagram p2: symbols U LM5013DDAR to U STM32F405RGT6]

## U LM5013DDAR
designator U?, comment LM5013DDAR  (value not drawn)
Manufacturer: TI(德州仪器); Add into BOM: yes; Function: 降压型; Synchronous Rectification: 否; Output Type: 可调; Number of Outputs: 1; Topology: 降压式; Input Voltage: 6V~100V; Output Voltage: 1.2V~100V; Output Current (Max): 3.5A; Switching Frequency: 1MHz; Name: LM5013DDAR; Symbol: LM5013DDAR; Device: LM5013DDAR; LCSC Part Name: LM5013DDAR; Supplier Part: C5383001; Manufacturer Part: LM5013DDAR; Supplier Footprint: PowerSOIC-8; JLCPCB Part Class: Extended Part; Datasheet: https://atta.szlcsc.com/upload/public/pdf/source/20230922/205702B523703FC312096987301AC8D1.pdf; Supplier: LCSC; Convert to PCB: yes; Operating Temperature: -40℃~+150℃@(TJ)
footprint ESOP-8_L4.9-W3.9-P1.27-LS6.0-BL-EP-1
3D model ESOP-8_L4.9-W3.9-P1.27-LS6.0-BL-EP-1
pins: 1 GND, 2 VIN, 3 EN/UVLO, 4 RON, 5 FB, 6 PGOOD, 7 BST, 8 SW, 9 EP

## U LM5085
designator U?
C79823
footprint MSOP-8_L3.0-W3.0-P0.65-LS5.0-BL-EP
pins: 1 ADJ, 2 RT, 3 FB, 4 GND, 5 Isen, 6 Pgate, 7 Vcc, 8 Vin, 9 EP

## U MP2451_ADJ
designator U?, comment MP2451
footprint SOT_23_6 (SOT-23/SC-74A; 5 Leads; Body 3.1 x 3 mm, inc. leads (LxW max))
pins: 1 BST, 2 GND, 3 FB, 4 EN, 5 VIN (power), 6 SW

## U MP2482DN
designator U?, comment MP2482DN
footprint SOIC_8_PAD
pins: 0 GND (power), 1 SW, 2 BST, 3 VCC (power), 4 GND (power), 5 FB, 6 PG, 7 EN/SYNC, 8 VIN (power)

## U MP6515
designator U?, comment MP6515
电机驱动; BOM_Manufacturer: FM富满; BOM_Manufacturer Part: XPD738BP; Contributor: LCSC; BOM_Supplier: LCSC; BOM_Supplier Part: C2937663; BOM_JLCPCB Part Class: Extended Part; spicePre: R; spiceSymbolName: XPD738BP
footprint TSSOP-16_L5.0-W4.4-P0.65-LS6.4-BL
pins: 0 EP, 1 nFAULT, 2 BRAKE, 3 PHASE, 4 GND, 5 nSLEEP, 6 ENBL, 7 OUT1, 8 ISET, 9 VIN, 10 OUT2, 11 CPA, 12 CPB, 13 GND, 14 VCP, 15 VISEN, 16 BMODE

## U MP9486AGN-Z
designator U?, comment MP9486AGN-Z
BOM_Manufacturer: MPS; Contributor: lcsc; BOM_Supplier: LCSC; BOM_Supplier Part: C404013; BOM_Manufacturer Part: MP9486AGN-Z; link: https://atta.szlcsc.comnull; BOM_JLCPCB Part Class: Extended Part; spicePre: U; spiceSymbolName: MP9486AGN-Z
footprint SOIC-8_L4.9-W3.9-P1.27-LS6.0-BL-EP3.1
pins: 1 FB, 2 NC, 3 VIN, 4 BST, 5 SW, 6 DIM, 7 EN, 8 GND, 9 EP

## U MPU6050
designator U?
pins: 1 CLKIN, 2 NC, 3 NC, 4 NC, 5 NC, 6 AUX_DA, 7 AUX_CL, 8 VLOGIC, 9 AD0, 10 REGOUT, 11 FSYNC, 12 INT, 13 VDD, 14 NC, 15 NC, 16 NC, 17 NC, 18 GND, 19 RESV, 20 CPOUT, 21 RESV, 22 RESV, 23 SCL, 24 SDA

## U SIC461ED-T1-GE3
designator U?, comment SIC461ED-T1-GE3  (value not drawn)
Manufacturer: VISHAY(威世); Add into BOM: yes; Function: 降压型; Synchronous Rectification: 是; Output Type: 可调; Number of Outputs: 1; Topology: 降压式; Input Voltage: 4.5V~60V; Output Voltage: 800mV~55.2V; Output Current (Max): 10A; Switching Frequency: 2MHz; Name: SIC461ED-T1-GE3; Symbol: SIC461ED-T1-GE3; Device: SIC461ED-T1-GE3; LCSC Part Name: 降压型 Vin=4.5V~60V Vout=800mV~55.2V 10A; Supplier Part: C499531; Manufacturer Part: SIC461ED-T1-GE3; Supplier Footprint: MLP55-27L(5x5); JLCPCB Part Class: Extended Part; Datasheet: https://atta.szlcsc.com/upload/public/pdf/source/20200324/C499531_C16045847F4DF0303B2652BC26370E16.pdf; Supplier: LCSC; Convert to PCB: yes; Operating Temperature: -40℃~+125℃@(TJ)
footprint MLP55-27_L5.0-W5.0-P0.50-TL_SIC46XXX
3D model MLP55-27_L5.0-W5.0-P0.50-TL_SIC46XXX
pins: 1 VCIN, 2 PGOOD, 3 EN, 4 BOOT, 5 PHASE, 6 PHASE, 7 VIN, 8 VIN, 9 PGND, 10 PGND, 11 PGND, 12 SW, 13 SW, 14 SW, 15 GL, 16 VDRV, 17 PGND, 18 ULTRASONIC, 19 SS, 20 VSNS, 21 COMP, 22 VFB, 23 AGND, 24 fSW, 25 ILIM, 26 VDD, 27 MODE, 28 AGND, 29 VIN, 30 PGND

## U SN65HVD230
designator U?, comment SN65HVD230DR
footprint SOIC127P600X175-8N
pins: 1 D, 2 GND, 3 VCC, 4 R, 5 Vref, 6 CANL, 7 CANH, 8 RS
2 alternate drawings of the same symbol

## U SN74LVC1G125DCKR
designator U?, comment SN74LVC1G126DCKR  (value not drawn)
Manufacturer: TI(德州仪器); Add into BOM: yes; Supply Voltage: 1.65V~5.5V; output type: 三态; Current-OutputLow: 32mA; Name: SN74LVC1G126DCKR; Symbol: SN74LVC1G126DCKR; Device: SN74LVC1G126DCKR; LCSC Part Name: SN74LVC1G126DCKR; Supplier Part: C88039; Manufacturer Part: SN74LVC1G126DCKR; Supplier Footprint: SC-70-5; JLCPCB Part Class: Extended Part; Datasheet: https://atta.szlcsc.com/upload/public/pdf/source/20181012/C88039_5769B6F1CE7E26397B908303919C8C98.pdf; Supplier: LCSC; Convert to PCB: yes; Type: 缓冲器，非反相; Input type: -; Current-OutputHigh: 32mA; Operating temperature: -40℃~+125℃
footprint SC-70-5_L2.1-W1.3-P0.65-LS2.1-BR
3D model SC-70-5_L2.1-W1.3-H1.0-LS2.1-P0.65
pins: 1 OE#, 2 A, 3 GND, 4 Y, 5 VCC

## U SN74LVC1G126DCKR
designator U?, comment SN74LVC1G126DCKR  (value not drawn)
Manufacturer: TI(德州仪器); Add into BOM: yes; Supply Voltage: 1.65V~5.5V; output type: 三态; Current-OutputLow: 32mA; Name: SN74LVC1G126DCKR; Symbol: SN74LVC1G126DCKR; Device: SN74LVC1G126DCKR; LCSC Part Name: SN74LVC1G126DCKR; Supplier Part: C88039; Manufacturer Part: SN74LVC1G126DCKR; Supplier Footprint: SC-70-5; JLCPCB Part Class: Extended Part; Datasheet: https://atta.szlcsc.com/upload/public/pdf/source/20181012/C88039_5769B6F1CE7E26397B908303919C8C98.pdf; Supplier: LCSC; Convert to PCB: yes; Type: 缓冲器，非反相; Input type: -; Current-OutputHigh: 32mA; Operating temperature: -40℃~+125℃
footprint SC-70-5_L2.1-W1.3-P0.65-LS2.1-BR
3D model SC-70-5_L2.1-W1.3-H1.0-LS2.1-P0.65
pins: 1 OE, 2 A, 3 GND, 4 Y, 5 VCC

## U STM32F103C6T6
designator U?
footprint LQFP_48
pins: 1 VBAT (power), 2 TAMPER-RTC/PC13 (io), 3 OSC32_IN/PC14 (io), 4 OSC32_OUT/PC15 (io), 5 (CANRX)/D2/PD0/OSC_IN (io), 6 (CANTX)/D3/PD1/OSC_OUT (io), 7 NRST (io), 8 VSSA (power), 9 VDDA (power), 10 PA0/WKUP/USART2_CTS/ADC12_IN0/T2CH1E (io), 11 PA1/USART2_RTS/ADC12_IN1/T2CH2 (io), 12 PA2/USART2_TX/ADC12_IN2/T2CH3 (io), 13 PA3/USART2_RX/ADC12_IN3/T2CH4 (io), 14 PA4/USART2_CK/SPI1_NSS/ADC12_IN4 (io), 15 PA5/SPI1_SCK/ADC12_IN5 (io), 16 PA6/SPI1_MISO/ADC12_IN6/T3CH1/(T1B) (io), 17 PA7/SPI1_MOSI/ADC12_IN7/T3CH2/(T1CH1N) (io), 18 PB0/ADC12_IN8/T3CH3/(T1CH2N) (io), 19 PB1/ADC12_IN9/T3CH4/(T1CH3N) (io), 20 PB2/BOOT1 (io), 21 PB10/USART3_TX/I2C2_SCL/(T2CH3) (io), 22 PB11/USART3_RX/I2C2_SDA/(T2CH4) (io), 23 VSS_1 (power), 24 VDD_1 (power), 25 PB12/USART3_CK/SPI2_NSS/I2C2_SMBAI/T1B (io), 26 PB13/USART3_CTS/SPI2_SCK/T1CH1N (io), 27 PB14/USART3_RTS/SPI2_MISO/T1CH2N (io), 28 PB15/SPI2_MOSI/T1CH3N (io), 29 PA8/USART1_CK/T1CH1/MCO (io), 30 PA9/USART1_TX/T1CH2 (io), 31 PA10/USART1_RX/T1CH3 (io), 32 PA11/USART1_CTS/CANRX/T1CH4/USBDM (io), 33 PA12/USART1_RTS/CANTX/T1E/USBDP (io), 34 JTMS/SWDIO/PA13 (io), 35 VSS_2 (power), 36 VDD_2 (power), 37 JTCK/SWCLK/PA14 (io), 38 JTDI/PA15/(T2Ch1E/SPI1_NSS) (io), 39 JTDO/PB3/TARCESWO/(T2CH2/SPI1_SCK) (io), 40 JNTRST/PB4/(T3CH1/SPI1_MISO) (io), 41 PB5/I2C1_SMBAI/(T3CH2/SPI1_MOSI) (io), 42 PB6/I2C1_SCL/T4CH1/(USART1_TX) (io), 43 PB7/I2C1_SDA/T4CH2/(USART1_RX) (io), 44 BOOT0, 45 PB8/T4CH3/(I2C1_SCL/CANRX) (io), 46 PB9/T4CH4/(I2C1_SDA/CANTX) (io), 47 VSS_3 (power), 48 VDD_3 (power)

## U STM32F334R8T6
designator U?, comment STM32F334R8T6  (value not drawn)
Manufacturer: ST(意法半导体); Add into BOM: yes; CPU Core: ARM Cortex-M4; Maximum Frequency: 72MHz; Supply Voltage Range: 2V~3.6V; Internal Oscillator: 有; Program FLASH Size: 64K@x8bit; RAM Size: 12KB; GPIO Ports Number: 51; ADC (Units/Channels/bits): 1@x21ch/12bit; DAC (Units/Channels/bits): 1@x3ch/12bit; Peripherals / Functions / Protocol Stacks: DMA；看门狗；POR；PWM; Name: STM32F334R8T6; Symbol: STM32F334R8T6; Device: STM32F334R8T6; LCSC Part Name: ARM Cortex-M4 72MHz 闪存：64K@x8bit RAM：12KB; Supplier Part: C80577; Manufacturer Part: STM32F334R8T6; Supplier Footprint: LQFP-64(10x10); JLCPCB Part Class: Extended Part; Datasheet: https://atta.szlcsc.com/upload/public/pdf/source/20170712/C80577_1499832474154814708.pdf; Supplier: LCSC; Convert to PCB: yes; EEPROM/Data FLASH Size: -; Operating Temperature Range: -40℃~+85℃
footprint LQFP-64_L10.0-W10.0-P0.50-LS12.0-BL
3D model LQFP-64_L10.0-W10.0-H1.4-LS12.0-P0.50
pins: 1 VBAT, 2 PC13, 3 PC14/OSC32_IN, 4 PC15/OSC32_OUT, 5 PF0/OSCIN, 6 PF1/OSCOUT, 7 NRST, 8 PC0, 9 PC1, 10 PC2, 11 PC3, 12 VSSA/VREF-, 13 VDDA/VREF+, 14 PA0, 15 PA1, 16 PA2, 17 PA3, 18 VSS, 19 VDD, 20 PA4, 21 PA5, 22 PA6, 23 PA7, 24 PC4, 25 PC5, 26 PB0, 27 PB1, 28 PB2, 29 PB10, 30 PB11, 31 VSS, 32 VDD, 33 PB12, 34 PB13, 35 PB14, 36 PB15, 37 PC6, 38 PC7, 39 PC8, 40 PC9, 41 PA8, 42 PA9, 43 PA10, 44 PA11, 45 PA12, 46 PA13, 47 VSS, 48 VDD, 49 PA14, 50 PA15, 51 PC10, 52 PC11, 53 PC12, 54 PD2, 55 PB3, 56 PB4, 57 PB5, 58 PB6, 59 PB7, 60 BOOT0, 61 PB8, 62 PB9, 63 VSS, 64 VDD

## U STM32F401RCT6
designator U?, comment STM32F401RCT6
BOM_Manufacturer: STMicroelectronics; BOM_Manufacturer Part: STM32F103RCT6; subpart_no: 1; BOM_Supplier: LCSC; BOM_Supplier Part: C8323; BOM_JLCPCB Part Class: Extended Part; spicePre: U; spiceSymbolName: STM32F103RCT6
footprint LQFP_64_M (Thin QFP, 64-Leads, Body 10x10mm, Pitch 0.5mm, IPC Low Density)
pins: 1 VBAT, 2 PC13-TAMPER-RTC, 3 PC14-OSC32_IN, 4 PC15-OSC32_OUT, 5 PH0-OSC_IN, 6 PH1-OSC_OUT, 7 NRST, 8 PC0, 9 PC1, 10 PC2, 11 PC3, 12 VSSA/Vref-, 13 VDDA/Vref+, 14 PA0-WKUP, 15 PA1, 16 PA2, 17 PA3, 18 VSS_4, 19 VDD_4, 20 PA4, 21 PA5, 22 PA6, 23 PA7, 24 PC4, 25 PC5, 26 PB0, 27 PB1, 28 PB2, 29 PB10, 30 V_cap1, 31 VSS_1, 32 VDD_1, 33 PB12, 34 PB13, 35 PB14, 36 PB15, 37 PC6, 38 PC7, 39 PC8, 40 PC9, 41 PA8, 42 PA9, 43 PA10, 44 PA11, 45 PA12, 46 PA13, 47 VSS_2, 48 VDD_2, 49 PA14, 50 PA15, 51 PC10, 52 PC11, 53 PC12, 54 PD2, 55 PB3, 56 PB4, 57 PB5, 58 PB6, 59 PB7, 60 BOOT0, 61 PB8, 62 PB9, 63 VSS_3, 64 VDD_3

## U STM32F405RGT6
designator U?, comment STM32F405RGT6  (value not drawn)
Manufacturer: ST(意法半导体); Add into BOM: yes; CPU Core: ARM Cortex-M4; Maximum Frequency: 168MHz; Supply Voltage Range: 1.8V~3.6V; Internal Oscillator: 有; Program FLASH Size: 1MB; RAM Size: 192KB; GPIO Ports Number: 51; ADC (Units/Channels/bits): 1@x16ch/12bit; DAC (Units/Channels/bits): 1@x2ch/12bit; Peripherals / Functions / Protocol Stacks: DMA；LCD/LED驱动；PWM；看门狗; Name: STM32F405RGT6; Symbol: STM32F405RGT6; Device: STM32F405RGT6; LCSC Part Name: ARM Cortex-M4 168MHz 闪存：1MB RAM：192KB; Supplier Part: C15742; Manufacturer Part: STM32F405RGT6; Supplier Footprint: LQFP-64(10x10); JLCPCB Part Class: Extended Part; Datasheet: https://atta.szlcsc.com/upload/public/pdf/source/20140724/1457707160365.pdf; Supplier: LCSC; Convert to PCB: yes; EEPROM/Data FLASH Size: -; Operating Temperature Range: -40℃~+85℃
footprint LQFP-64_L10.0-W10.0-P0.50-LS12.0-BL
3D model LQFP-64_L10.0-W10.0-H1.4-LS12.0-P0.50
pins: 1 VBAT, 2 PC13, 3 PC14-OSC32_IN(PC14), 4 PC15-OSC32_OUT(PC15), 5 PH0-OSC_IN(PH0), 6 PH1-OSC_OUT(PH1), 7 NRST, 8 PC0, 9 PC1, 10 PC2, 11 PC3, 12 VSSA, 13 VDDA, 14 PA0-WKUP(PA0), 15 PA1, 16 PA2, 17 PA3, 18 VSS, 19 VDD, 20 PA4, 21 PA5, 22 PA6, 23 PA7, 24 PC4, 25 PC5, 26 PB0, 27 PB1, 28 PB2-BOOT1(PB2), 29 PB10, 30 PB11, 31 VCAP_1, 32 VDD, 33 PB12, 34 PB13, 35 PB14, 36 PB15, 37 PC6, 38 PC7, 39 PC8, 40 PC9, 41 PA8, 42 PA9, 43 PA10, 44 PA11, 45 PA12, 46 PA13(JTMS-SWDIO), 47 VCAP_2, 48 VDD, 49 PA14(JTCK-SWCLK), 50 PA15(JTDI), 51 PC10, 52 PC11, 53 PC12, 54 PD2, 55 PB3(JTDOTRACESWO), 56 PB4(NJTRST), 57 PB5, 58 PB6, 59 PB7, 60 BOOT0, 61 PB8, 62 PB9, 63 VSS, 64 VDD

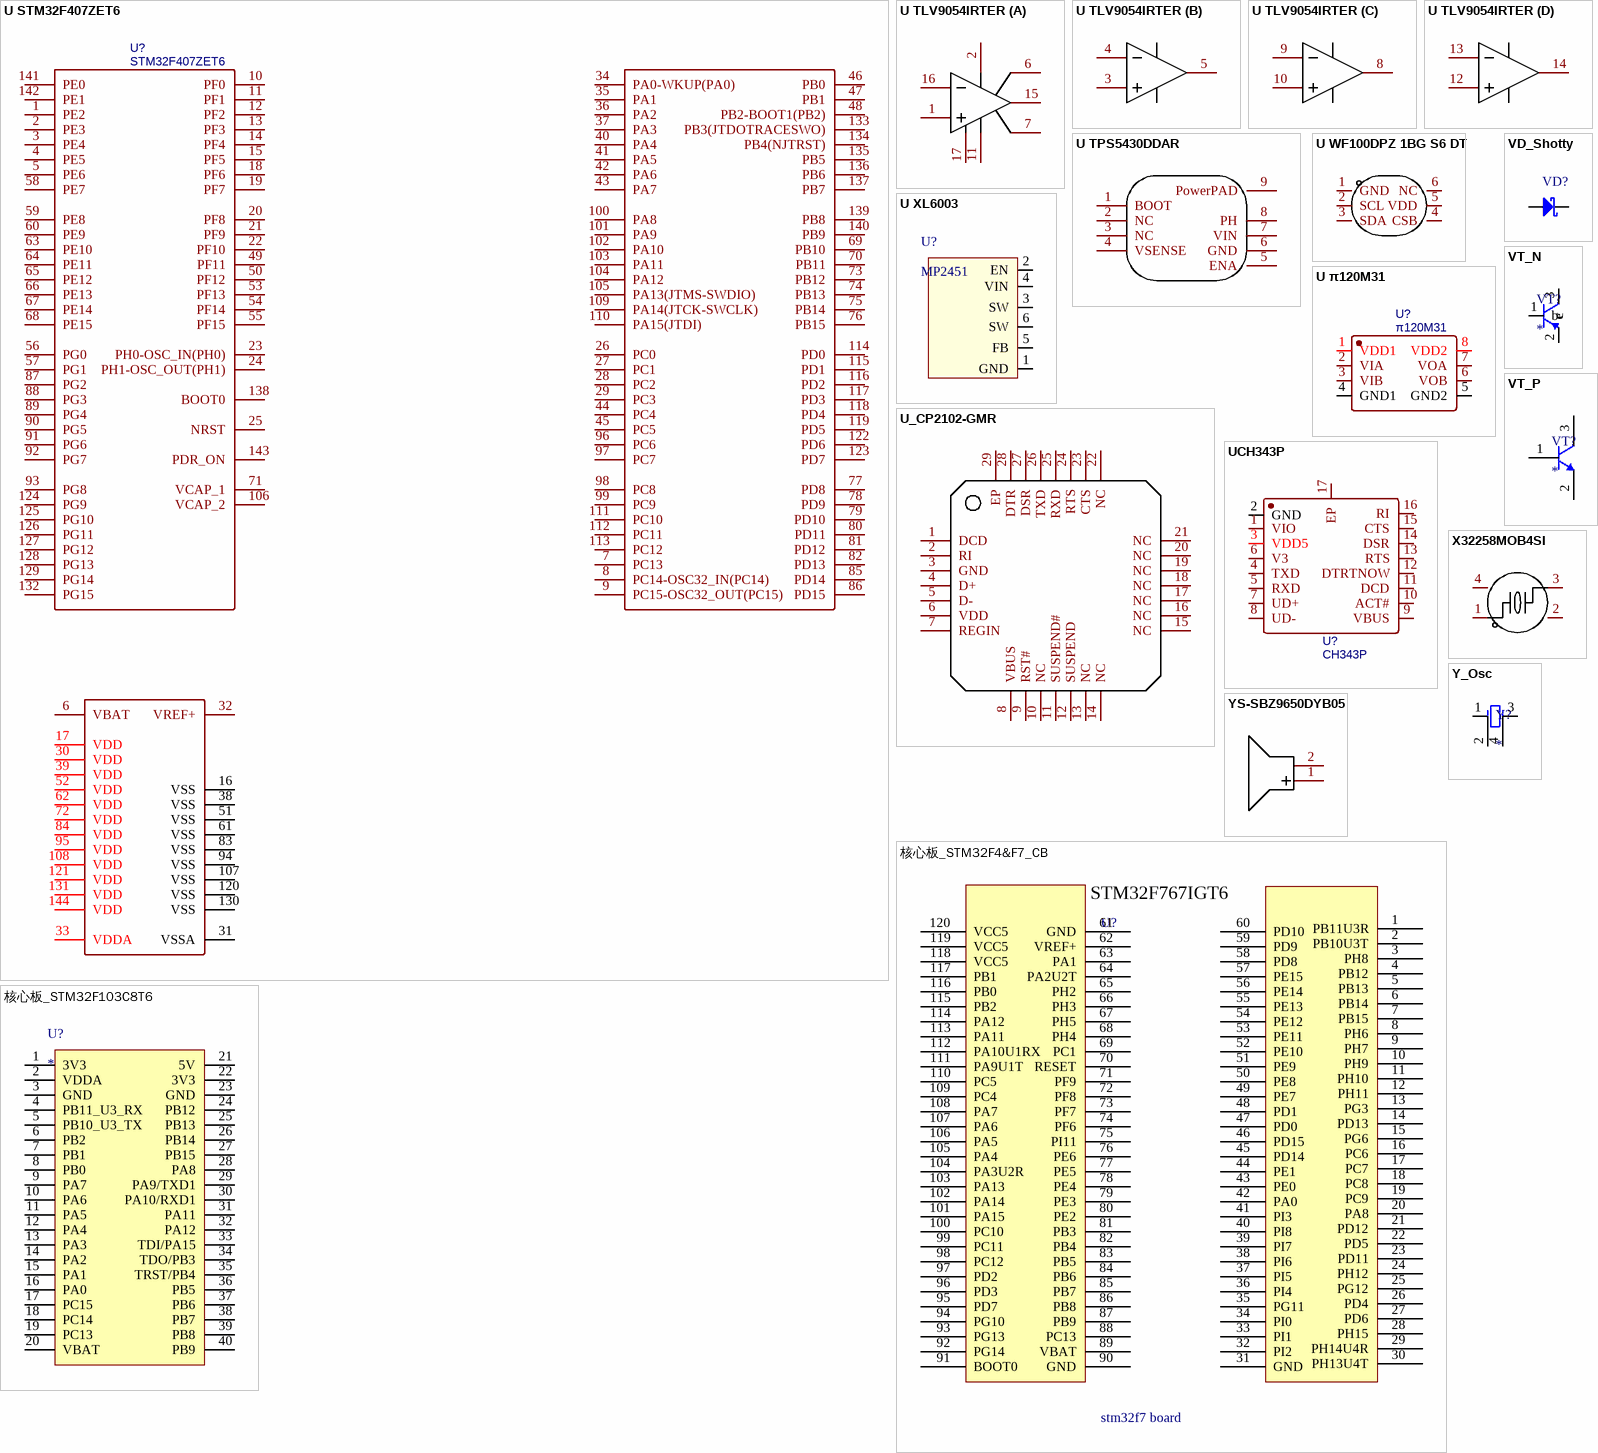
[diagram p3: symbols U STM32F407ZET6 to 核心板_STM32F103C8T6]

## U STM32F407ZET6
designator U?, comment STM32F407ZET6
BOM_Manufacturer: ST; subpart_no: 2; tags: STM32; BOM_Supplier Part: C36869; BOM_Supplier: LCSC; BOM_Manufacturer Part: STM32F407ZET6; image: http://image.lceda.cn/szlcsc/C36869.jpg; BOM_JLCPCB Part Class: Extended Part; spicePre: U; spiceSymbolName: STM32F407ZET6
footprint LQFP-144_L20.0-W20.0-P0.50-LS22.0-BL
pins: 1 PE2, 2 PE3, 3 PE4, 4 PE5, 5 PE6, 6 VBAT, 7 PC13, 8 PC14-OSC32_IN(PC14), 9 PC15-OSC32_OUT(PC15), 10 PF0, 11 PF1, 12 PF2, 13 PF3, 14 PF4, 15 PF5, 16 VSS, 17 VDD, 18 PF6, 19 PF7, 20 PF8, 21 PF9, 22 PF10, 23 PH0-OSC_IN(PH0), 24 PH1-OSC_OUT(PH1), 25 NRST, 26 PC0, 27 PC1, 28 PC2, 29 PC3, 30 VDD, 31 VSSA, 32 VREF+, 33 VDDA, 34 PA0-WKUP(PA0), 35 PA1, 36 PA2, 37 PA3, 38 VSS, 39 VDD, 40 PA4, 41 PA5, 42 PA6, 43 PA7, 44 PC4, 45 PC5, 46 PB0, 47 PB1, 48 PB2-BOOT1(PB2), 49 PF11, 50 PF12, 51 VSS, 52 VDD, 53 PF13, 54 PF14, 55 PF15, 56 PG0, 57 PG1, 58 PE7, 59 PE8, 60 PE9, 61 VSS, 62 VDD, 63 PE10, 64 PE11, 65 PE12, 66 PE13, 67 PE14, 68 PE15, 69 PB10, 70 PB11, 71 VCAP_1, 72 VDD, 73 PB12, 74 PB13, 75 PB14, 76 PB15, 77 PD8, 78 PD9, 79 PD10, 80 PD11, 81 PD12, 82 PD13, 83 VSS, 84 VDD, 85 PD14, 86 PD15, 87 PG2, 88 PG3, 89 PG4, 90 PG5, 91 PG6, 92 PG7, 93 PG8, 94 VSS, 95 VDD, 96 PC6, 97 PC7, 98 PC8, 99 PC9, 100 PA8, 101 PA9, 102 PA10, 103 PA11, 104 PA12, 105 PA13(JTMS-SWDIO), 106 VCAP_2, 107 VSS, 108 VDD, 109 PA14(JTCK-SWCLK), 110 PA15(JTDI), 111 PC10, 112 PC11, 113 PC12, 114 PD0, 115 PD1, 116 PD2, 117 PD3, 118 PD4, 119 PD5, 120 VSS, 121 VDD, 122 PD6, 123 PD7, 124 PG9, 125 PG10, 126 PG11, 127 PG12, 128 PG13, 129 PG14, 130 VSS, 131 VDD, 132 PG15, 133 PB3(JTDOTRACESWO), 134 PB4(NJTRST), 135 PB5, 136 PB6, 137 PB7, 138 BOOT0, 139 PB8, 140 PB9, 141 PE0, 142 PE1, 143 PDR_ON, 144 VDD

## U TLV9054IRTER
designator U?, comment TLV9054IRTER  (value not drawn)
Manufacturer: TI(德州仪器); Add into BOM: yes; Name: TLV9054IRTER; Symbol: TLV9054IRTER; Device: TLV9054IRTER; LCSC Part Name: TLV9054IRTER; Supplier Part: C2057810; Manufacturer Part: TLV9054IRTER; Supplier Footprint: WQFN-16(3x3); JLCPCB Part Class: Extended Part; Supplier: LCSC; Convert to PCB: yes
footprint WQFN-16_L3.0-W3.0-P0.50-TL-EP1.7
3D model WQFN-16_L3.0-W3.0-P0.50-TL-EP1.7
part A pins: 1 IN1+, 2 V+, 6 NC, 7 NC, 11 V-, 15 OUT1, 16 IN1-, 17 EP
part B pins: 3 IN2+, 4 IN2-, 5 OUT2
part C pins: 8 OUT3, 9 IN3-, 10 IN3+
part D pins: 12 IN4+, 13 IN4-, 14 OUT4

## U TPS5430DDAR
designator U?, comment TPS5430DDAR  (value not drawn)
Manufacturer: TI(德州仪器); Add into BOM: yes; Function: 降压型; Name: TPS5430DDAR; Symbol: TPS5430DDAR; Device: TPS5430DDAR; LCSC Part Name: 降压型; Supplier Part: C9864; Manufacturer Part: TPS5430DDAR; Supplier Footprint: SO-8; JLCPCB Part Class: Basic Part; Datasheet: https://atta.szlcsc.com/upload/public/pdf/source/20161207/1481104217724.pdf; Supplier: LCSC; Convert to PCB: yes; Synchronous Rectification: -; Number of Outputs: -; Topology: -; Input Voltage: -; Output Current (Max): -; Switching Frequency: -
footprint ESOP-8_L4.9-W3.9-P1.27-LS6.0-TL-EP
3D model ESOP-8_L4.9-W3.9-P1.27-LS6.0-TL-EP
pins: 1 BOOT, 2 NC, 3 NC, 4 VSENSE, 5 ENA, 6 GND, 7 VIN, 8 PH, 9 PowerPAD

## U WF100DPZ 1BG S6 DT
designator U?, comment WF100DPZ 1BG S6 DT  (value not drawn)
Manufacturer: WF(伟烽); Add into BOM: yes; Name: WF100DPZ 1BG S6 DT; Symbol: WF100DPZ 1BG S6 DT; Device: WF100DPZ 1BG S6 DT; LCSC Part Name: 数字传感器; Supplier Part: C3001182; Manufacturer Part: WF100DPZ 1BG S6 DT; Supplier Footprint: SOP-6-2.54; JLCPCB Part Class: Extended Part; Datasheet: https://atta.szlcsc.com/upload/public/pdf/source/20220509/5E03BF1028724AFA70121845BCF7D5D3.pdf; Supplier: LCSC; Convert to PCB: yes
footprint SOP-6_L7.0-W7.0-P2.54-LS10.6-BR
3D model SOP-6_L7.0-W7.0-P2.54-LS10.6-BR
pins: 1 GND, 2 SCL, 3 SDA, 4 CSB, 5 VDD, 6 NC

## U XL6003
designator U?, comment MP2451
footprint TO263-5A (263，5脚晶体管)
pins: 1 GND (power), 2 EN, 3 SW, 4 VIN, 5 FB, 6 SW

## U π120M31
designator U?, comment π120M31
BOM_Manufacturer: 2Pai Semi; Contributor: LCSC; BOM_Supplier: LCSC; BOM_Supplier Part: C471592; BOM_Manufacturer Part: π120M31; BOM_JLCPCB Part Class: Extended Part; spicePre: U; spiceSymbolName: π120M31
footprint SOIC-8_L4.9-W3.9-P1.27-LS6.0-BL
pins: 1 VDD1, 2 VIA, 3 VIB, 4 GND1, 5 GND2, 6 VOB, 7 VOA, 8 VDD2

## U_CP2102-GMR
designator U?, comment CP2102-GMR  (value not drawn)
Manufacturer: SILICON LABS(芯科); Add into BOM: yes; Applications Function: 收发器; Protocol: USB; Data Rate: 1Mbps; Supply Voltage: 3V~3.6V; Name: CP2102-GMR; Symbol: CP2102-GMR; Device: CP2102-GMR; LCSC Part Name: CP2102-GMR; Supplier Part: C6568; Manufacturer Part: CP2102-GMR; Supplier Footprint: WQFN-28-EP(5x5); JLCPCB Part Class: Basic Part; Datasheet: https://atta.szlcsc.com/upload/public/pdf/source/20170103/1483439882795.pdf; Supplier: LCSC; Convert to PCB: yes
footprint WQFN-28_L5.0-W5.0-P0.50-BL-EP3.2
3D model WQFN-28_L5.0-W5.0-P0.50-BL-EP3.2
pins: 1 DCD, 2 RI, 3 GND, 4 D+, 5 D-, 6 VDD, 7 REGIN, 8 VBUS, 9 RST#, 10 NC, 11 SUSPEND#, 12 SUSPEND, 13 NC, 14 NC, 15 NC, 16 NC, 17 NC, 18 NC, 19 NC, 20 NC, 21 NC, 22 NC, 23 CTS, 24 RTS, 25 RXD, 26 TXD, 27 DSR, 28 DTR, 29 EP

## UCH343P
designator U?, comment CH343P
BOM_Manufacturer: WCH(南京沁恒); Contributor: LCSC; BOM_Supplier: LCSC; BOM_Supplier Part: C2846043; BOM_Manufacturer Part: CH343P; BOM_JLCPCB Part Class: Extended Part; spicePre: U; spiceSymbolName: CH343P
footprint TQFN-16_L3.0-W3.0-P0.50-BL-EP1.7
pins: 1 VIO, 2 GND, 3 VDD5, 4 TXD, 5 RXD, 6 V3, 7 UD+, 8 UD-, 9 VBUS, 10 ACT#, 11 DCD, 12 DTRTNOW, 13 RTS, 14 DSR, 15 CTS, 16 RI, 17 EP

## VD_Shotty
designator VD?
Schottky Rectifier; Note: Terminal 2 is the TAB and is electrically connected to the cathode; Published: 8-Jun-2000; LatestRevisionDate: 17-Jul-2002; LatestRevisionNote: Re-released for DXP Platform.; DatasheetVersion: PD-2.057B; PackageVersion: Feb-1998; PackageReference: TO-220AC; Publisher: Altium Limited; PackageDescription: TO, Thru-Hole, Vertical, Heatsink Mounted; 3 In-Line Leads (1 Absent); Pitch 2.54 mm; ComponentLink1Description: Manufacturer Link; ComponentLink1URL: http://www.irf.com/; ComponentLink2Description: Datasheet; ComponentLink2URL: http://www.irf.com/product-info/datasheets/data/10tq.pdf
footprint TO-220AC (TO, Thru-Hole, Vertical, Heatsink Mounted; 3 In-Line Leads (1 Absent); Pitch 2.54 mm)
pins: 1 -, 2 +

## VT_N
designator VT?
pins: 1 b "24V输入", 2 e "24V输入", 3 c "24V输入"

## VT_P
designator VT?
pins: 1 b "24V输入", 2 e "24V输入", 3 c "24V输入"

## X32258MOB4SI
designator X?  (value not drawn)
Manufacturer: YXC(扬兴晶振); Name: 8MHz; Add into BOM: yes; Crystal Type: 贴片无源晶振; Value: 8MHz; Frequency Tolerance: ±10ppm; Frequency Stability: ±30ppm; Load Capacitance: 12pF; Equivalent Series Resistance (ESR): 150Ω; Symbol: X32258MOB4SI; Device: X32258MOB4SI; LCSC Part Name: 8MHz ±10ppm 12pF YSX321SL; Supplier Part: C2682775; Manufacturer Part: X32258MOB4SI; Supplier Footprint: SMD3225-4P; JLCPCB Part Class: Extended Part; Datasheet: https://atta.szlcsc.com/upload/public/pdf/source/20210106/C2682774_0CD4FDA5D9DA3FBEEC23BD607A48E4B0.pdf; Supplier: LCSC; Convert to PCB: yes; Operating Temperature: -40℃~+85℃
footprint OSC-SMD_4P-L3.2-W2.5-BL
3D model OSC-SMD_4P-L3.2-W2.5-H1.0
pins: 1, 2 GND, 3, 4 GND

## Y_Osc
designator Y?
footprint XALT_3225
pins: 1 OSC1, 2, 3 OSC2, 4

## YS-SBZ9650DYB05
designator BUZZER?  (value not drawn)
Manufacturer: Fengming(锋鸣电子); Name: 2700Hz; Symbol: YS-SBZ9650DYB05_C409830; Add into BOM: yes; Oscillator Circuit: 有源(内含驱动线路); Rated Voltage: 5V; Operating Voltage: 3V~7V; Value: 2700Hz; Sound Pressure Level (SPL): 80dB@5V,10cm; Device: YS-SBZ9650DYB05; LCSC Part Name: 贴片有源蜂鸣器5V; Supplier Part: C409830; Manufacturer Part: YS-SBZ9650DYB05; Supplier Footprint: SMD; JLCPCB Part Class: Extended Part; Datasheet: https://atta.szlcsc.com/upload/public/pdf/source/20191217/C409830_8EC3C70066086F723D62F9967ED58A07.pdf; Supplier: LCSC; Convert to PCB: yes; Length: 9.6mm; Width: 9.6mm; Height: 5.3mm
footprint BUZ-SMD_L9.6-W9.6-LS10.0-R
3D model BUZ-SMD_L9.6-W9.6-H5.0
pins: 1 +, 2 -